# EAGLE library part 74VHC4040M (library Fairchild_By_element14_Batch_1)
12-Stage Binary Counter
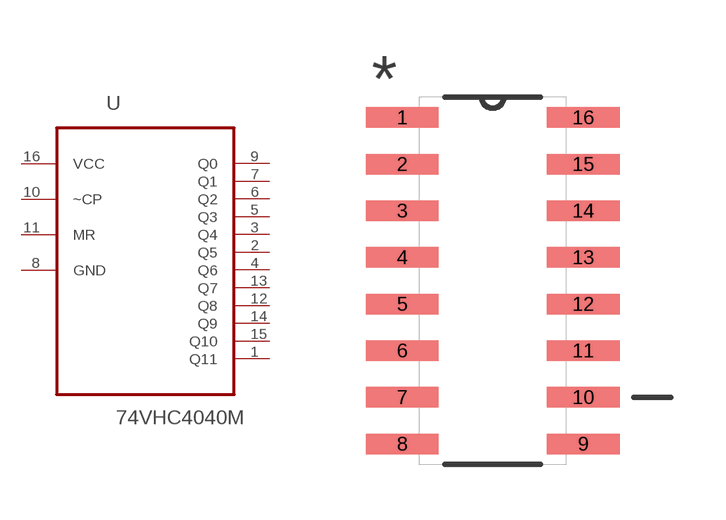
[diagram p138: symbol with the pads of SOIC127P600X175-16N; footprint SOIC127P600X175-16N]

Designator prefix U

## 74VHC4040M (MPN: 74VHC4040M; OC_FARNELL: 1607651; OC_NEWARK: 34C2269; PACKAGE: SOIC-16; SUPPLIER: Fairchild Semiconductor)  [SOIC127P600X175-16N]
1  Q11  out
2  Q5  out
3  Q4  out
4  Q6  out
5  Q3  out
6  Q2  out
7  Q1  out
8  GND  pas
9  Q0  out
10  ~CP  in
11  MR  in
12  Q8  out
13  Q7  out
14  Q9  out
15  Q10  out
16  VCC  pwr

## Footprint SOIC127P600X175-16N (pad centres in mm)
smd 1.981 x 0.559: 1 -2.464,4.445; 2 -2.464,3.175; 3 -2.464,1.905; 4 -2.464,0.635; 5 -2.464,-0.635; 6 -2.464,-1.905; 7 -2.464,-3.175; 8 -2.464,-4.445; 9 2.464,-4.445; 10 2.464,-3.175; 11 2.464,-1.905; 12 2.464,-0.635; 13 2.464,0.635; 14 2.464,1.905; 15 2.464,3.175; 16 2.464,4.445